# Altium schematic symbol library MTD2007F.SchLib: 1 symbol
Pins are listed as number, name and electrical type; pins without a type are passive.

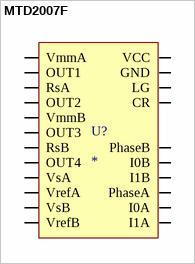
[diagram p0: symbol MTD2007F]

## MTD2007F
designator U?
Motor Stepper Driver 2bit Current Resolution
footprint HSOP28
pins: 2 VmmA, 3 OUT1, 5 RsA, 7 OUT2, 8 OUT3, 10 RsB, 12 OUT4, 13 VmmB, 16 PhaseB, 17 I0B, 18 I1B, 19 VsB, 20 VrefB, 21 CR, 22 LG, 23 VrefA, 24 VsA, 25 I1A, 26 I0A, 27 PhaseA, 28 VCC, GND